# EAGLE library part RFID-SM521X (library Neel)
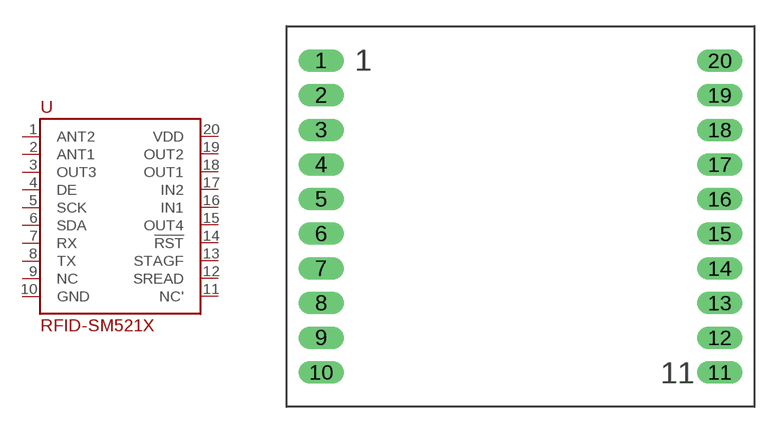
[diagram p69: symbol with the pads of MODULE-SM521X; footprint MODULE-SM521X]

Designator prefix -

## RFID-SM521X  [MODULE-SM521X]
1  ANT2
2  ANT1
3  OUT3
4  DE
5  SCK
6  SDA
7  RX
8  TX
9  NC
10  GND
11  NC'
12  SREAD
13  STAGF
14  !RST
15  OUT4
16  IN1
17  IN2
18  OUT1
19  OUT2
20  VDD

## Footprint MODULE-SM521X (pad centres in mm)
drill 0.8 long: 1 -11.5,9; 2 -11.5,7; 3 -11.5,5; 4 -11.5,3; 5 -11.5,1; 6 -11.5,-1; 7 -11.5,-3; 8 -11.5,-5; 9 -11.5,-7; 10 -11.5,-9; 11 11.5,-9; 12 11.5,-7; 13 11.5,-5; 14 11.5,-3; 15 11.5,-1; 16 11.5,1; 17 11.5,3; 18 11.5,5; 19 11.5,7; 20 11.5,9